# EAGLE library part DG9424DQ-T1-E3 (library ICs)
The DG9424, DG9425, DG9426 are low voltage precision monolithic quad single-pole- single-throw analog switches. Using BiCMOS wafer fabrication technology allows the DG9424, DG9425, DG9426 to operate on single and dual supplies. Single supply voltage ranges from 3 V to 12 V while dual supply operation is recommended with ± 3 V to ± 6 V. Combining high speed (t ON : 42 ns), flat R DS(on) over the analog signal range (  ), minimal insertion lose (- 3 dB at 190 MHz), and excellent crosstalk and off-isolation performance, the DG9424, DG9425, DG9426 are ideally suited for audio and vi deo signal switching. The DG9424 and DG9425 respond to opposite control logic as shown in the Truth Table. The DG9426 has two normally open and two normally closed switches
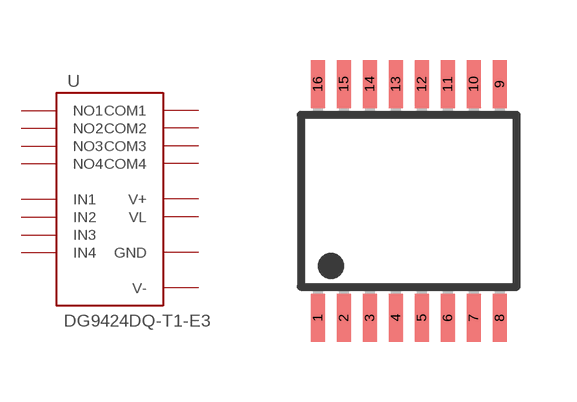
[diagram p5: symbol with the pads of TSSOP16; footprint TSSOP16]

Designator prefix -

## DG9424DQ-T1-E3  [TSSOP16]
1  IN1
2  COM1
3  NO1
4  V-
5  GND
6  NO4
7  COM4
8  IN4
9  IN3
10  COM3
11  NO3
12  VL
13  V+
14  NO2
15  COM2
16  IN2

## Footprint TSSOP16 (pad centres in mm)
PW (R-PDSO-G8) Source: http://focus.ti.com/lit/ds/symlink/ads1271.pdf
smd 0.35 x 1.2: 1 -2.275,-2.925; 2 -1.625,-2.925; 3 -0.975,-2.925; 4 -0.325,-2.925; 5 0.325,-2.925; 6 0.975,-2.925; 7 1.625,-2.925; 8 2.275,-2.925; 9 2.275,2.925; 10 1.625,2.925; 11 0.975,2.925; 12 0.325,2.925; 13 -0.325,2.925; 14 -0.975,2.925; 15 -1.625,2.925; 16 -2.275,2.925